# EAGLE library part 691701510010B (library WR-TBL Pluggable Connector)
WR-TBL Serie 7015B - 5.08 mm Close Vertical PCB Header THR Type KIND PROPERTIES Pitch 5.08 mm MATERIAL PROPERTIES Insulator Material LCP Insulator Flammability Rating UL94 V-0 Contact Material Brass Contact Plating Tin GENERAL INFORMATION Operating Temperature -40 up to +105 °C Compliance RoHS ELECTRICAL PROPERTIES IR cULus 10 A Working Voltage [cULus] 300 V (AC) Withstanding Voltage [cULus] 4000 V (AC) Contact Resistance [cULus] 20 mΩ CERTIFICATION cULus Approval E315414 <https://www.we-online.com/catalog/media/o33333v209%20Family_WR-TBL_66917015100xxB.jpg> Details see: https://www.we-online.com/catalog/en/TBL_5_08_THR_7015B_CLOSE_VERTICAL_PCB_HEADER_6917015100XXB/ Updated by Ella Wu 2022-07-25 2022(C) Wurth Elektronik
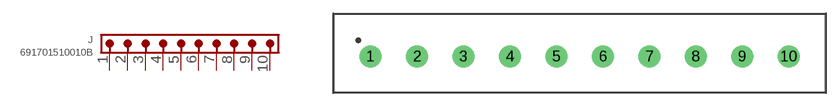
[diagram p241: symbol with the pads of 691701510010B; footprint 691701510010B]

Designator prefix J

## 691701510010B (DATASHEET-URL: https://www.we-online.com/redexpert/spec/691701510010B?ae; IR-UL: 10A; MOUNT: THT; PART-NUMBER: 691701510010B; PINS: 10; PITCH: 5.08mm; TYPE: Vertical; VALUE: 691701510010B; WORKING-VOLTAGE-UL: 300V (AC))  [691701510010B]
1  1  pas
2  2  pas
3  3  pas
4  4  pas
5  5  pas
6  6  pas
7  7  pas
8  8  pas
9  9  pas
10  10  pas

## Footprint 691701510010B (pad centres in mm)
WR-TBL Serie 7015B - 5.08 mm Close Vertical PCB Header THR Type Max Height = 12mm , Pitch 5.08mm , 10pins
drill 1.6: 1 -22.86,0; 2 -17.78,0; 3 -12.7,0; 4 -7.62,0; 5 -2.54,0; 6 2.54,0; 7 7.62,0; 8 12.7,0; 9 17.78,0; 10 22.86,0